# EAGLE library part MAX5035BUSA+T (library max5035)
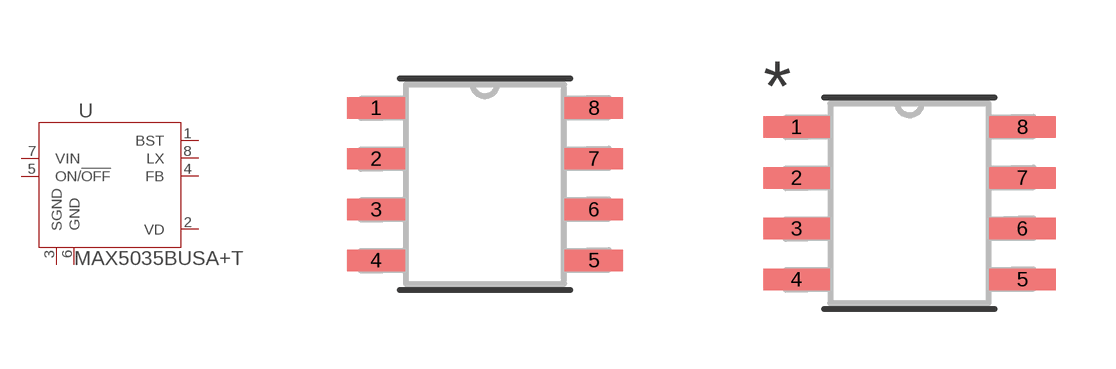
[diagram p0: symbol with the pads of 21-0041B_8_MXM; footprints 21-0041B_8_MXM, 21-0041B_8_MXM-M]

Designator prefix U

## MAX5035BUSA+T (COPYRIGHT: Copyright (C) 2023 Ultra Librarian. All rights reserved.; DIGIKEY_PART_NUMBER_1: MAX5035BUSA+T-ND; DIGIKEY_PART_NUMBER_2: MAX5035BUSA+TCT-ND; DIGIKEY_PART_NUMBER_3: MAX5035BUSA+TDKR-ND; DIGIKEY_PART_NUMBER_4: MAX5035BUSA+TTR-ND; MANUFACTURER_PART_NUMBER: max5035busa+T; MFR_NAME: Analog Devices Inc)  [21-0041B_8_MXM]
1  BST  pas
2  VD  pwr
3  SGND  pwr
4  FB  out
5  ON/!OFF  in
6  GND  pwr
7  VIN  pwr
8  LX  pas

## MAX5035BUSA+T21-0041B_8_MXM-M (COPYRIGHT: Copyright (C) 2023 Ultra Librarian. All rights reserved.; DIGIKEY_PART_NUMBER_1: MAX5035BUSA+T-ND; DIGIKEY_PART_NUMBER_2: MAX5035BUSA+TCT-ND; DIGIKEY_PART_NUMBER_3: MAX5035BUSA+TDKR-ND; DIGIKEY_PART_NUMBER_4: MAX5035BUSA+TTR-ND; MANUFACTURER_PART_NUMBER: max5035busa+T; MFR_NAME: Analog Devices Inc)  [21-0041B_8_MXM-M]
Pads as for 21-0041B_8_MXM

## MAX5035BUSA+T21-0041B_8_MXM-L (COPYRIGHT: Copyright (C) 2023 Ultra Librarian. All rights reserved.; DIGIKEY_PART_NUMBER_1: MAX5035BUSA+T-ND; DIGIKEY_PART_NUMBER_2: MAX5035BUSA+TCT-ND; DIGIKEY_PART_NUMBER_3: MAX5035BUSA+TDKR-ND; DIGIKEY_PART_NUMBER_4: MAX5035BUSA+TTR-ND; MANUFACTURER_PART_NUMBER: max5035busa+T; MFR_NAME: Analog Devices Inc)  [21-0041B_8_MXM-L]
Pads as for 21-0041B_8_MXM

## Footprint 21-0041B_8_MXM (pad centres in mm)
smd 1.46 x 0.533: 1 -2.724,1.905; 2 -2.724,0.635; 3 -2.724,-0.635; 4 -2.724,-1.905; 5 2.724,-1.905; 6 2.724,-0.635; 7 2.724,0.635; 8 2.724,1.905

## Footprint 21-0041B_8_MXM-M (pad centres in mm)
smd 1.664 x 0.533: 1 -2.826,1.905; 2 -2.826,0.635; 3 -2.826,-0.635; 4 -2.826,-1.905; 5 2.826,-1.905; 6 2.826,-0.635; 7 2.826,0.635; 8 2.826,1.905

## Footprint 21-0041B_8_MXM-L (pad centres in mm)
smd 1.257 x 0.483: 1 -2.623,1.905; 2 -2.623,0.635; 3 -2.623,-0.635; 4 -2.623,-1.905; 5 2.623,-1.905; 6 2.623,-0.635; 7 2.623,0.635; 8 2.623,1.905